# Altium schematic symbol library Molex_0705430038.SchLib: 1 symbol
Pins are listed as number, name and electrical type; pins without a type are passive.

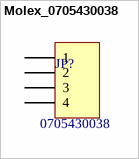
[diagram p0: symbol Molex_0705430038]

## Molex_0705430038
designator JP?, comment PartNumber: 0705430038  (hidden comment: Header 4)
Header, 4-Pin; Manufacturer: Molex; LatestRevisionDate: 17-Jul-2002; LatestRevisionNote: Re-released for DXP Platform.; Publisher: Altium Limited; Supplier 1: Digi-Key; Supplier Part Number 1: WM4826-ND
signal-integrity model Connector
footprint Molex_0705430001
pins: 1, 2, 3, 4